# Altium schematic symbol library ADM7150.Schlib: 1 symbol
Pins are listed as number, name and electrical type; pins without a type are passive.

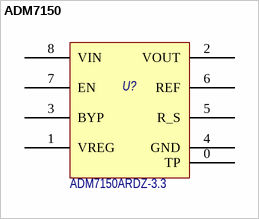
[diagram p0: symbol ADM7150]

## ADM7150
designator U?  Наименование: ADM7150ARDZ-3.3  (hidden comment: ADM7150)
800 mA Ultralow Noise, High PSRR, RF Linear Regulator; Назначение: Линейный регулятор; Потребление, Вт: 0,1
footprint SOIC-8 + Exposed Pad
pins: 0 TP, 1 VREG, 2 VOUT, 3 BYP, 4 GND, 5 R_S, 6 REF, 7 EN, 8 VIN